# Altium integrated library Gate Driver.IntLib: 3 symbols
Pins are listed as number, name and electrical type; pins without a type are passive.

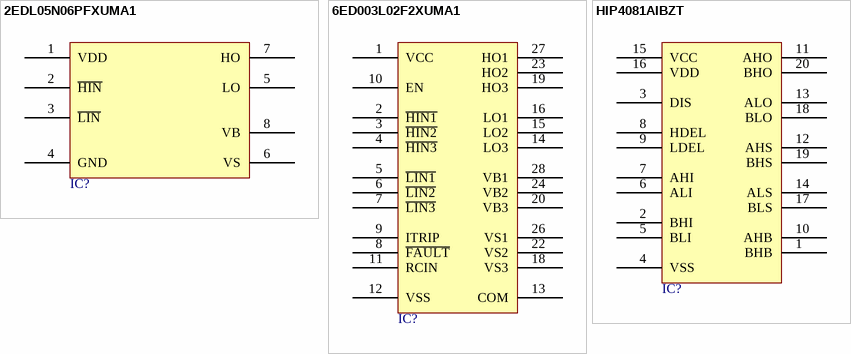
[diagram p0: symbols 2EDL05N06PFXUMA1 to HIP4081AIBZT]

## 2EDL05N06PFXUMA1
designator IC?  (value not drawn)
IC DRIVER GATE HALF BRIDGE 8DSO; Manufacturer: Infineon Technologies; Driven Configuration: Half-Bridge; Channel Type: Independent; Number Of Drivers: 2; Gate Type: IGBT, N-Channel, P-Channel MOSFET; Voltage - Supply: 10 V ~ 20 V; Input Type: Non-Inverting; High Side Voltage - Max (Bootstrap): 600V; Rise / Fall Time (Typ): 48ns, 24ns; Part Number: 2EDL05N06PFXUMA1; PartId: 21206; Supplier 1: Digi-Key; Supplier Part Number 1: 2EDL05N06PFXUMA1TR-ND; ComponentLink1Description: Datasheet; ComponentLink1URL: http://www.infineon.com/dgdl/Infineon-2EDL05x06xx-DS-v02_05-EN.pdf?fileId=db3a30433e30e4bf013e3c649ffd6c8b; ComponentLink2Description: Digi-Key Listing; ComponentLink2URL: http://www.digikey.com/product-detail/en/infineon-technologies/2EDL05N06PFXUMA1/2EDL05N06PFXUMA1TR-ND/4571868?; Price: 0.5782; Series: EiceDriver; Device Package: 8-SOIC (0.154", 3.90mm Width); Operating Temperature: -40C ~ 150C (TJ); Current - Peak Output (Source, Sink): -
footprint Infineon PG-DSO-8
pins: 1 VDD, 2 ~{HIN}, 3 ~{LIN}, 4 GND, 5 LO, 6 VS, 7 HO, 8 VB

## 6ED003L02F2XUMA1
designator IC?  (value not drawn)
IC GATE DRVR 600V 3PHASE 28TSSOP; Manufacturer: Infineon Technologies; Part Number: 6ED003L02F2XUMA1; PartId: 21205; Supplier 1: Digi-Key; Supplier Part Number 1: 6ED003L02F2XUMA1CT-ND; ComponentLink1Description: Datasheet; ComponentLink1URL: http://www.infineon.com/dgdl/6ED-F2-DB-Rev2_5.pdf?folderId=db3a30431a5c32f2011a77fa27a86cb5&fileId=db3a3043315daf4401316108306d4190; ComponentLink2Description: Digi-Key Listing; ComponentLink2URL: http://www.digikey.com/product-detail/en/infineon-technologies/6ED003L02F2XUMA1/6ED003L02F2XUMA1CT-ND/4806645; Price: 2.81
footprint INFINEON TSSOP-28
pins: 1 VCC, 2 ~{HIN1}, 3 ~{HIN2}, 4 ~{HIN3}, 5 ~{LIN1}, 6 ~{LIN2}, 7 ~{LIN3}, 8 ~{FAULT}, 9 ITRIP, 10 EN, 11 RCIN, 12 VSS, 13 COM, 14 LO3, 15 LO2, 16 LO1, 18 VS3, 19 HO3, 20 VB3, 22 VS2, 23 HO2, 24 VB2, 26 VS1, 27 HO1, 28 VB1

## HIP4081AIBZT
designator IC?  (value not drawn)
IC DRIVER FET FULL 80V 20-SOIC; Manufacturer: Intersil; Driven Configuration: Half-Bridge; Channel Type: Independent; Number Of Drivers: 4; Gate Type: N-Channel MOSFET; Voltage - Supply: 9.5 V ~ 15 V; Current - Peak Output (Source, Sink): 2.6A, 2.4A; Input Type: Non-Inverting; High Side Voltage - Max (Bootstrap): 95V; Rise / Fall Time (Typ): 10ns, 10ns; Part Number: HIP4081AIBZT; PartId: 14617; Supplier 1: Digi-Key; Supplier Part Number 1: HIP4081AIBZTTR-ND; ComponentLink1Description: Datasheet; ComponentLink1URL: http://www.intersil.com/content/dam/Intersil/documents/hip4/hip4081a.pdf; ComponentLink2Description: Digi-Key Listing; ComponentLink2URL: http://www.digikey.com/product-detail/en/intersil/HIP4081AIBZT/HIP4081AIBZTTR-ND/1034532; Price: 2.856; Type: PMIC - Gate Drivers; Series: -; Device Package: 20-SOIC (0.295", 7.50mm Width); Operating Temperature: -40C ~ 125C (TJ)
footprint INTERSIL SOIC-20 WIDE
pins: 1 BHB, 2 BHI, 3 DIS, 4 VSS, 5 BLI, 6 ALI, 7 AHI, 8 HDEL, 9 LDEL, 10 AHB, 11 AHO, 12 AHS, 13 ALO, 14 ALS, 15 VCC, 16 VDD, 17 BLS, 18 BLO, 19 BHS, 20 BHO